# Altium schematic symbol library BQ40Z80.SchLib: 1 symbol
Pins are listed as number, name and electrical type; pins without a type are passive.

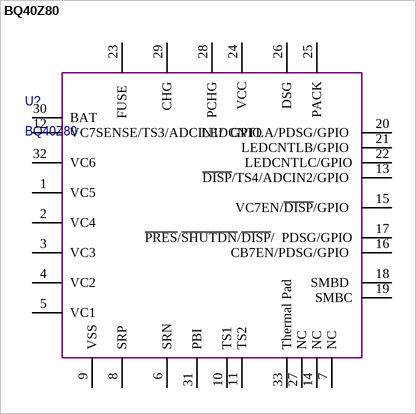
[diagram p0: symbol BQ40Z80]

## BQ40Z80
designator U?
pins: 1 VC5, 2 VC4, 3 VC3, 4 VC2, 5 VC1, 6 SRN, 7 NC, 8 SRP, 9 VSS, 10 TS1, 11 TS2, 12 VC7SENSE/TS3/ADCIN1/  GPIO, 13 ~{DISP}/TS4/ADCIN2/GPIO , 14 NC, 15 VC7EN/~{DISP}/GPIO , 16 CB7EN/PDSG/GPIO , 17 ~{PRES}/~{SHUTDN}/~{DISP}/  PDSG/GPIO, 18 SMBD , 19 SMBC, 20 LEDCNTLA/PDSG/GPIO , 21 LEDCNTLB/GPIO , 22 LEDCNTLC/GPIO, 23 FUSE , 24 VCC, 25 PACK, 26 DSG, 27 NC, 28 PCHG, 29 CHG, 30 BAT, 31 PBI, 32 VC6, 33 Thermal Pad